# Altium schematic symbol library TI_National_Semiconductor_LP3985IM5_2_9.SchLib: 1 symbol
Pins are listed as number, name and electrical type; pins without a type are passive.

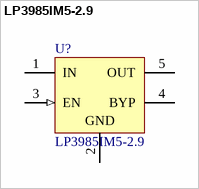
[diagram p0: symbol LP3985IM5-2.9]

## LP3985IM5-2.9
designator U?
Micropower, 150mA Low-Noise Ultra Low-Dropout CMOS Voltage Regulator, 5-pin SOT-23; Manufacturer: National Semiconductor; PackageTopMarking: LCYB*XTT; PowerWise: N; CompType: LDO IC; PinCount: 5; DatasheetVersion: Aug-2005; PackageVersion: revD, Aug-2008; PackageReference: MF05A; PackageDescription: Molded SOT-23, .115 x .063 x .040 in Body, 5 Lead, .0375 in Pitch; RoHS: Y; PartNumber: LP3985IM5-2.9
footprint MF05A_M
footprint MF05A_N
footprint MF05A_L
pins: 1 IN (power), 2 GND (power), 3 EN (in), 4 BYP, 5 OUT (power)